# Altium schematic symbol library Term,Header,10x2 Pin,4.20mm,Right.Schlib: 1 symbol
Pins are listed as number, name and electrical type; pins without a type are passive.

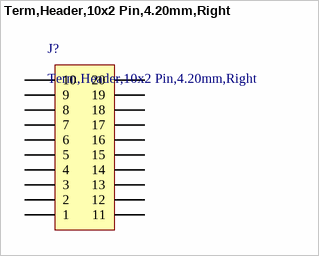
[diagram p0: symbol Term,Header,10x2 Pin,4.20mm,Right]

## Term,Header,10x2 Pin,4.20mm,Right
designator J?
Connector Header Through Hole, Right Angle 20 position 0.165" (4.20mm)
pins: 1, 2, 3, 4, 5, 6, 7, 8, 9, 10, 11, 12, 13, 14, 15, 16, 17, 18, 19, 20